# Altium integrated library 206-4.IntLib: 1 symbol
Pins are listed as number, name and electrical type; pins without a type are passive.

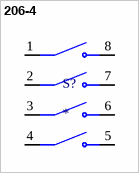
[diagram p0: symbol 206-4]

## 206-4
designator S?
MF: {'manufacturer': u'CTS Components'}; MP: 206-4; Package: None; Price: None; Value: *; Availability: Unavailable
footprint SW_206-4
pins: 1 COM1, 2 COM2, 3 COM3, 4 COM4, 5 NO4, 6 NO3, 7 NO2, 8 NO1